# Altium schematic symbol library CAP,Alum,10uF,35VDC,Radial,Thru.Schlib: 1 symbol
Pins are listed as number, name and electrical type; pins without a type are passive.

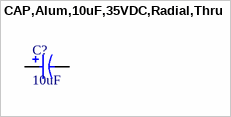
[diagram p0: symbol CAP,Alum,10uF,35VDC,Radial,Thru]

## CAP,Alum,10uF,35VDC,Radial,Thru
designator C?, comment 10uF
10µF 35V Aluminum Electrolytic Capacitors Radial, Can 23.21Ohm @ 120Hz 2000 Hrs @ 85°C
pins: 1, 2